# Altium schematic symbol library X-KDS-32.768.Schlib: 1 symbol
Pins are listed as number, name and electrical type; pins without a type are passive.

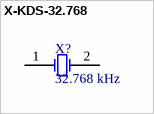
[diagram p0: symbol X-KDS-32.768]

## X-KDS-32.768
designator X?, comment 32.768 kHz
KDS Crystal 32.768 kHz
pins: 1 OSC1, 2 OSC2